# Altium integrated library Smartplug.IntLib: 12 symbols
Pins are listed as number, name and electrical type; pins without a type are passive.

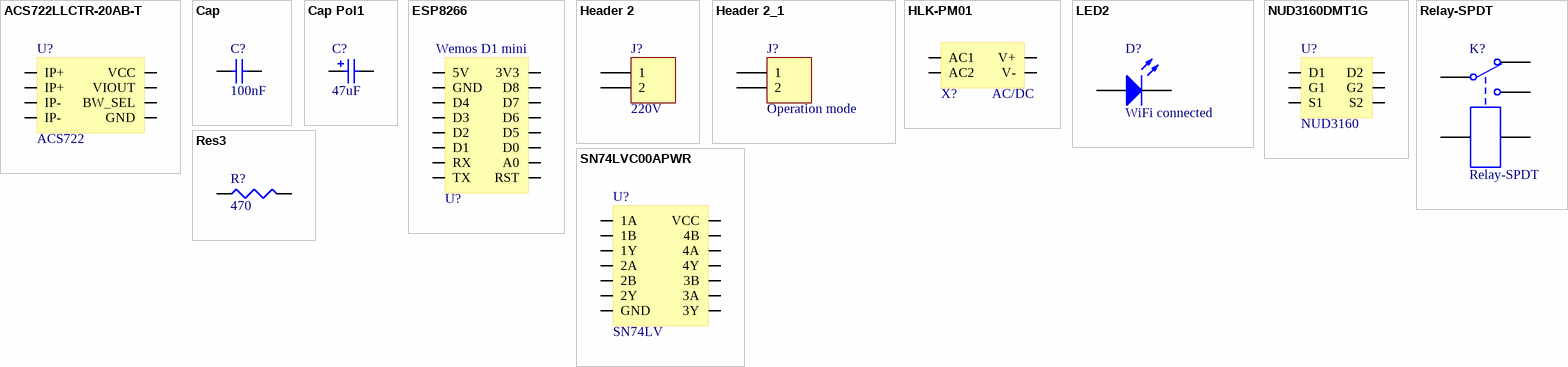
[diagram p0: symbols ACS722LLCTR-20AB-T to SN74LVC00APWR]

## ACS722LLCTR-20AB-T
designator U?, comment ACS722
SENSOR CURRENT HALL 20A AC/DC; Manufacturer 1: Allegro MicroSystems; Manufacturer Part Number 1: ACS722LLCTR-20AB-T; Number of Channels: 1; Frequency: 80kHz; Response Time: 5us; Max Supply Current: 12mA; Polarity: Bidirectional; Max Input Voltage: 3.6V; Min Input Voltage: 3V; Linearity: 1%; Accuracy: 3%; Quiescent Current: 9mA; Sensitivity: 66mV/A; Supplier 1: Digi-Key; Supplier Part Number 1: 620-1637-6-ND; Description 1: SENSOR CURRENT HALL 20A AC/DC; Stock: 4729; Pricing 1: 1=4.91, 5=4.332, 10=3.827, 25=3.1052, 50=2.7442, 100=2.672, 500=2.23866, 1000=2.09424 (USD); Case/Package: SOIC; Number of Pins: 8; Packaging: Tape and Reel; Bandwidth: 80kHz; Current Sensing: 20A; Length: 4.9mm; Height: 1.5mm; Width: 3.9mm; ComponentLink1URL: https://www.allegromicro.com/~/media/Files/Datasheets/ACS722-Datasheet.ashx?src-supplier=Digi-Key; ComponentLink1Description: https://www.allegromicro.com/~/media/Files/Datasheets/ACS722-Datasheet.ashx?src-supplier=Digi-Key; ComponentLink2URL: http://www.allegromicro.com/~/media/Files/Datasheets/ACS722-Datasheet.ashx?src-supplier=Digi-Key; ComponentLink2Description: http://www.allegromicro.com/~/media/Files/Datasheets/ACS722-Datasheet.ashx?src-supplier=Digi-Key
footprint SOIC8
pins: 1 IP+, 2 IP+, 3 IP-, 4 IP-, 5 GND, 6 BW_SEL, 7 VIOUT, 8 VCC

## Cap
designator C?  value 100nF  (hidden comment: Cap)
Capacitor; Manufacturer 1: KEMET; Manufacturer Part Number 1: C0805C104Z5VACTU; Description 1: KEMET         C0805C104Z5VACTU.             CERAMIC CAPACITOR, 0.1UF, 50V, Y5V, +80,-20%, 0805; Dielectric Material: Ceramic; Voltage Rating: 50V; Tolerance: 80%; Dielectric: Y5V; Dissipation Factor: 5%; Published: 8-Jun-2000; LatestRevisionDate: 17-Jul-2002; LatestRevisionNote: Re-released for DXP Platform.; PackageReference: RAD-0.3; Publisher: Altium Limited; PackageDescription: Radial Cap, Thru-Hole; 2 Leads; 0.3 in Pin Spacing; Supplier 1: Digi-Key; Supplier Part Number 1: 399-1177-6-ND; Stock: 978536; Pricing 1: 1=0.1, 10=0.057, 100=0.0254, 500=0.01818, 1000=0.01428 (USD); Mount: Surface Mount,PCB; Case/Package: 0805; Number of Pins: 2; Case Code (Metric): 2012; Case Code (Imperial): 0805; Min Operating Temperature: -30°C; Max Operating Temperature: 85°C; Package Quantity: 1; Capacitance: 100nF; Packaging: Tape and Reel; Voltage Rating (DC): 50V; Termination: SMD/SMT; Voltage: 50V; Length: 2mm; Height: 0.9mm; Lead Pitch: 0.75mm; Width: 0.049inch; Thickness: 0.039inch; Depth: 1.25mm; Radiation Hardening: No; REACH SVHC: No SVHC; Lead Free: Lead Free; ComponentLink1URL: http://www.alliedelec.com/m/d/9bfe7773041ffe9d406e68bc7b377fdd.pdf?src-supplier=Allied+Electronics; ComponentLink1Description: http://www.alliedelec.com/m/d/9bfe7773041ffe9d406e68bc7b377fdd.pdf?src-supplier=Allied+Electronics; ComponentLink2URL: https://www.verical.com/server-webapp/html/getDatasheet?partID=37101&src-supplier=Verical; ComponentLink2Description: https://www.verical.com/server-webapp/html/getDatasheet?partID=37101&src-supplier=Verical; ComponentLink3URL: https://www.verical.com/server-webapp/html/getDatasheet?partID=321176&src-supplier=Verical; ComponentLink3Description: https://www.verical.com/server-webapp/html/getDatasheet?partID=321176&src-supplier=Verical; ComponentLink4URL: http://www.farnell.com/datasheets/2123124.pdf?src-supplier=Element14; ComponentLink4Description: http://www.farnell.com/datasheets/2123124.pdf?src-supplier=Element14
footprint RAD-0.3 (Radial Cap, Thru-Hole; 2 Leads; 0.3 in Pin Spacing)
simulation model CAP (Capacitor)
signal-integrity model Cap
footprint C0805 (Chip Capacitor, Body 2.0x1.3mm, IPC High Density)
pins: 1, 2

## Cap Pol1
designator C?  value 47uF  (hidden comment: Cap Pol1)
Polarized Capacitor (Radial); Manufacturer 1: Nichicon; Manufacturer Part Number 1: UWT1E470MCL6GS; Description 1: Aluminum Electrolytic Capacitors - SMD 25volts 47uF 6.3x5.8 20%; Dielectric Material: Aluminium; Voltage Rating: 25V; Tolerance: 20%; Ripple Current: 59mA; Leakage Current: 3uA; Life (Hours): 1000Hour; Dissipation Factor: 0.16%; Published: 8-Jun-2000; LatestRevisionDate: 17-Jul-2002; LatestRevisionNote: Re-released for DXP Platform.; PackageReference: RB7.6-15; Publisher: Altium Limited; PackageDescription: Polarized Capacitor (Radial); 2 Leads; Supplier 1: Digi-Key; Supplier Part Number 1: 493-9881-6-ND; Stock: 12722; Pricing 1: 1=0.29, 10=0.202, 100=0.1143, 500=0.08072 (USD); Mount: Surface Mount; Case/Package: Radial; Min Operating Temperature: -55°C; Max Operating Temperature: 105°C; Capacitance: 47uF; Package Quantity: 1000; Voltage Rating (DC): 25V; Packaging: Tape and Reel; Termination: SMD/SMT; Features: General Purpose; Diameter: 6.3mm; Length: 5.8mm; Height: 6.6mm; Radiation Hardening: No; Lead Free: Lead Free; ComponentLink1URL: http://www.mouser.com/ds/2/293/e-wt-30307.pdf?src-supplier=Mouser; ComponentLink1Description: http://www.mouser.com/ds/2/293/e-wt-30307.pdf?src-supplier=Mouser; ComponentLink2URL: https://www.verical.com/server-webapp/html/getDatasheet?partID=732041&src-supplier=Verical; ComponentLink2Description: https://www.verical.com/server-webapp/html/getDatasheet?partID=732041&src-supplier=Verical; ComponentLink3URL: http://www.nichicon.co.jp/english/products/pdfs/e-ch_ref.pdf?src-supplier=Digi-Key; ComponentLink3Description: http://www.nichicon.co.jp/english/products/pdfs/e-ch_ref.pdf?src-supplier=Digi-Key; ComponentLink4URL: http://nichicon-us.com/english/products/pdfs/e-wt.pdf?src-supplier=Future+Electronics; ComponentLink4Description: http://nichicon-us.com/english/products/pdfs/e-wt.pdf?src-supplier=Future+Electronics; ComponentLink5URL: http://www.nichicon.co.jp/english/products/pdfs/e-wt.pdf?src-supplier=Avnet+Europe; ComponentLink5Description: http://www.nichicon.co.jp/english/products/pdfs/e-wt.pdf?src-supplier=Avnet+Europe
footprint RB7.6-15 (Polarized Capacitor (Radial); 2 Leads)
simulation model CAP (Capacitor)
signal-integrity model Cap Pol
footprint CAP47U
pins: 1, 2
1 alternate drawing of the same symbol

## ESP8266
designator U?, comment Wemos D1 mini
ESP8266 based MCU with Wi-Fi; Manufacturer Part Number 1: D1 mini; Manufacturer 1: Wemos; ComponentLink1Description: Datasheet; ComponentLink1URL: https://docs.wemos.cc/en/latest/d1/d1_mini.html
footprint WEMOS_D1
pins: 1 5V, 2 GND, 3 D4, 4 D3, 5 D2, 6 D1, 7 RX, 8 TX, 9 RST, 10 A0, 11 D0, 12 D5, 13 D6, 14 D7, 15 D8, 16 3V3

## Header 2
designator J?, comment 220V
Header, 2-Pin; Manufacturer 1: TE Connectivity; Manufacturer Part Number 1: 282834-2; Description 1: TE CONNECTIVITY / BUCHANAN - 282834-2 - TERMINAL BLOCK, WIRE TO BRD, 2POS, 16AWG; Plating: Brass,Steel; Max Voltage Rating (AC): 150V; Number of Poles: 2; Gender: Male; Current Rating: 10A; Number of Levels: 1; Connector Type: Receptacle; Closed End: No (Without); Screwless Terminal Block: Yes (With); Wire Gauge (Max): 30AWG; Pitch: 2.54mm; Thread Size: M1.6; Tail Length: 3.4mm; Approvals: UL; LatestRevisionDate: 17-Jul-2002; LatestRevisionNote: Re-released for DXP Platform.; Publisher: Altium Limited; Supplier 1: Digi-Key; Supplier Part Number 1: A98333-ND; Stock: 18918; Pricing 1: 1=0.92, 10=0.649, 25=0.6048, 50=0.549, 100=0.5467, 250=0.46164, 500=0.43732, 1000=0.38874, 5000=0.36444 (USD); Mount: Through Hole; Contact Plating: Tin; Contact Material: Brass; Color: Green; Material: Nylon; Housing Color: Green; Housing Material: Polyamide; Min Operating Temperature: -40°C; Max Operating Temperature: 105°C; Number of Rows: 1; Voltage Rating: 150V; Package Quantity: 300; Packaging: Bulk; Number of Positions: 2; Termination: Solder; Number of Positions Per Level: 2; Current: 10A; Voltage: 150V; Max Supply Voltage (AC): 150V; Number of Contacts: 2; Number of Circuits: 2; Orientation: Straight; Max Current Rating: 10A; Interlock: No (Without); Screw Flange: No (Without); Side Stackable: Yes (With); Length: 5.54mm; Wire Gauge (Min): 30AWG; Width: 6.5mm; Wire/Cable Gauge: 30AWG; Depth: 6.5mm; Radiation Hardening: No; REACH SVHC: Unknown; ELV: Compliant; Lead Free: Lead Free; Flammability Rating: UL94 V-0; ComponentLink1URL: https://www.alliedelec.com/m/d/020b790adaa0bc8636bbfa0190e2b719.pdf?src-supplier=Allied+Electronics; ComponentLink1Description: https://www.alliedelec.com/m/d/020b790adaa0bc8636bbfa0190e2b719.pdf?src-supplier=Allied+Electronics; ComponentLink2URL: https://www.verical.com/server-webapp/html/getDatasheet?partID=155864&src-supplier=Verical; ComponentLink2Description: https://www.verical.com/server-webapp/html/getDatasheet?partID=155864&src-supplier=Verical; ComponentLink3URL: http://www.te.com/commerce/DocumentDelivery/DDEController?Action=showdoc&DocId=Catalog+Section%7F1308389_EUROSTYLE_TERMINAL_BLOCKS%7F0607%7Fpdf%7FEnglish%7FENG_CS_1308389_EUROSTYLE_TERMINAL_BLOCKS_0607.pdf&src-supplier=Avnet; ComponentLink3Description: http://www.te.com/commerce/DocumentDelivery/DDEController?Action=showdoc&DocId=Catalog+Section%7F1308389_EUROSTYLE_TERMINAL_BLOCKS%7F0607%7Fpdf%7FEnglish%7FENG_CS_1308389_EUROSTYLE_TERMINAL_BLOCKS_0607.pdf&src-supplier=Avnet; ComponentLink4URL: http://www1.futureelectronics.com/doc/TE%20CONNECTIVITY/282834-2.pdf?src-supplier=Future+Electronics; ComponentLink4Description: http://www1.futureelectronics.com/doc/TE%20CONNECTIVITY/282834-2.pdf?src-supplier=Future+Electronics; ComponentLink5URL: https://www.te.com/commerce/DocumentDelivery/DDEController?Action=srchrtrv&DocNm=1308389_EUROSTYLE_TERMINAL_BLOCKS&DocType=CS&DocLang=English&src-supplier=Digi-Key; ComponentLink5Description: https://www.te.com/commerce/DocumentDelivery/DDEController?Action=srchrtrv&DocNm=1308389_EUROSTYLE_TERMINAL_BLOCKS&DocType=CS&DocLang=English&src-supplier=Digi-Key; ComponentLink6URL: http://www.te.com/commerce/DocumentDelivery/DDEController?Action=showdoc&DocId=Catalog+Section%7F1308389_EUROSTYLE_TERMINAL_BLOCKS%7F0607%7Fpdf%7FEnglish%7FENG_CS_1308389_EUROSTYLE_TERMINAL_BLOCKS_0607.pdf&src-supplier=Avnet+Europe; ComponentLink6Description: http://www.te.com/commerce/DocumentDelivery/DDEController?Action=showdoc&DocId=Catalog+Section%7F1308389_EUROSTYLE_TERMINAL_BLOCKS%7F0607%7Fpdf%7FEnglish%7FENG_CS_1308389_EUROSTYLE_TERMINAL_BLOCKS_0607.pdf&src-supplier=Avnet+Europe; ComponentLink7URL: http://www.onlinecomponents.com/productFiles/mf-AMP/eng_cs_1308389_eurostyle_terminal_blocks_0607.pdf?src-supplier=Onlinecomponents.com; ComponentLink7Description: http://www.onlinecomponents.com/productFiles/mf-AMP/eng_cs_1308389_eurostyle_terminal_blocks_0607.pdf?src-supplier=Onlinecomponents.com
footprint HDR1X2 (Connector; Header; 2 Position)
signal-integrity model Connector
footprint TBLOCK2
pins: 1, 2

## Header 2_1
designator J?, comment Operation mode
Header, 2-Pin; Manufacturer 1: Amphenol FCI; Manufacturer Part Number 1: 77311-118-02LF; Description 1: Conn;  Rect;  UnshroudedHdr;  2Cnts;  ThruHole;  BergStik;  2.54mmPin-Spng;  Vert;  SingleRow; Current Rating: 3A; Voltage Rating: 1.5kV; Number of Positions: 2; Insulation Resistance: 5GR; Gender: Male; Connector Type: Male Pin; Pitch: 2.54mm; Contact Post Length: 3.05mm; LatestRevisionDate: 17-Jul-2002; LatestRevisionNote: Re-released for DXP Platform.; Publisher: Altium Limited; Supplier 1: Digi-Key; Supplier Part Number 1: 609-4434-ND; Stock: 85355; Pricing 1: 1=0.19, 10=0.182, 100=0.1258, 500=0.10648, 1000=0.08712, 5000=0.07744, 10000=0.07018 (USD); Mount: Through Hole; Contact Plating: Gold,GXT; Contact Material: Bronze; Color: Black; Housing Color: Black; Material: Thermoplastic; Housing Material: Thermoplastic; Min Operating Temperature: -65°C; Max Operating Temperature: 125°C; Number of Rows: 1; Contact Gender: Male; Package Quantity: 1000; Packaging: Bulk; Termination: Solder; Number of Contacts: 2; Max Voltage Rating (AC): 1.5kV; Orientation: Straight; Length: 5.08mm; Contact Mating Length: 0.23inch; Depth: 2.4mm; Radiation Hardening: No; REACH SVHC: No SVHC; Lead Free: Lead Free; Flammability Rating: UL94 V-0; ComponentLink1URL: https://cdn.amphenol-icc.com/media/wysiwyg/files/drawing/77311.pdf?src-supplier=Digi-Key; ComponentLink1Description: https://cdn.amphenol-icc.com/media/wysiwyg/files/drawing/77311.pdf?src-supplier=Digi-Key; ComponentLink2URL: http://portal.fciconnect.com/Comergent/fci/drawing/77311.pdf?src-supplier=Avnet+Asia; ComponentLink2Description: http://portal.fciconnect.com/Comergent/fci/drawing/77311.pdf?src-supplier=Avnet+Asia; ComponentLink3URL: http://portal.fciconnect.com/Comergent/fci/drawing/77311.pdf?src-supplier=Avnet; ComponentLink3Description: http://portal.fciconnect.com/Comergent/fci/drawing/77311.pdf?src-supplier=Avnet; ComponentLink4URL: https://www.alliedelec.com/m/d/695616ca3fa695a35268331f95f01020.pdf?src-supplier=Allied+Electronics; ComponentLink4Description: https://www.alliedelec.com/m/d/695616ca3fa695a35268331f95f01020.pdf?src-supplier=Allied+Electronics
footprint HDR1X2 (Connector; Header; 2 Position)
signal-integrity model Connector
footprint HEADER2
pins: 1, 2

## HLK-PM01
designator X?, comment AC/DC
220Vac to 5Vdc converter (3W); Manufacturer 1: Hi-Link; Manufacturer Part Number 1: PM01; ComponentLink1Description: Datasheet; ComponentLink1URL: https://datasheet.lcsc.com/szlcsc/1909111105_HI-LINK-HLK-PM24_C399250.pdf
footprint HLK-PM01
pins: 1 AC1, 2 AC2, 3 V-, 4 V+

## LED2
designator D?, comment WiFi connected
Typical RED, GREEN, YELLOW, AMBER GaAs LED; Manufacturer 1: Stanley; Manufacturer Part Number 1: BR1101W-TR; Description 1: Red 1206 152/141° 12.8 mcd Clear 1.7 V LED Surface Mount; Lens Style: Clear; Forward Voltage: 1.7V; Viewing Angle: 141°; Wavelength: 660nm; Luminous Intensity: 12.8mcd; Published: 8-Jun-2000; LatestRevisionDate: 17-Jul-2002; LatestRevisionNote: Re-released for DXP Platform.; PackageVersion: Feb-2002; PackageReference: 3.2X1.6X1.1; Publisher: Altium Limited; PackageDescription: SM LED; 2 Flat Leads; Supplier 1: Digi-Key; Supplier Part Number 1: 404-1042-6-ND; Stock: 56287; Pricing 1: 1=0.47, 10=0.334, 100=0.195, 500=0.13368, 1000=0.1114 (USD); Mount: Surface Mount; Case/Package: 1206; Color: Red; Packaging: Cut Tape; Length: 3mm; Height: 1.5mm; Width: 1.5mm; Lead Free: Lead Free; ComponentLink1URL: http://www1.futureelectronics.com/doc/STANLEY/BR1101W-TR.pdf?src-supplier=Future+Electronics; ComponentLink1Description: http://www1.futureelectronics.com/doc/STANLEY/BR1101W-TR.pdf?src-supplier=Future+Electronics
footprint 3.2X1.6X1.1 (SMT LED; 2 Flat Leads)
simulation model LED2 (Diode)
pins: 1 A, 2 K

## NUD3160DMT1G
designator U?, comment NUD3160
IC INDCT LOAD DRVR INDUST SC74-6; Manufacturer 1: ON Semiconductor; Manufacturer Part Number 1: NUD3160DMT1G; Number of Outputs: 2; Max Supply Voltage: 60V; Rise Time: 600ns; Interface: On/Off; Max Output Current: 150mA; Gate to Source Voltage (Vgs): 12V; Power Dissipation: 380mW; Output Configuration: Low Side; Output Current: 200mA; Output Voltage: 61V; Current Rating: 263mA; Drain to Source Resistance: 1.8R; Element Configuration: Dual; On-State Resistance: 3.7R; Supplier 1: Digi-Key; Supplier Part Number 1: NUD3160DMT1GOSDKR-ND; Description 1: IC INDCT LOAD DRVR INDUST SC74-6; Stock: 11786; Pricing 1: 1=0.45, 10=0.367, 100=0.2264, 500=0.17176, 1000=0.12882 (USD); Mount: Surface Mount; Case/Package: SC; Number of Pins: 6; Contact Plating: Tin,Matte; Min Operating Temperature: -40°C; Max Operating Temperature: 125°C; Packaging: Tape and Reel; Package Quantity: 3000; Continuous Drain Current (ID): 150mA; Fall Time: 600ns; Number of Elements: 2; Drain to Source Breakdown Voltage: 60V; Drain to Source Voltage (Vdss): 60V; Length: 3mm; Height: 0.94mm; Width: 1.5mm; Radiation Hardening: No; Lead Free: Lead Free; Halogen Free: Halogen Free; REACH SVHC: No SVHC; ComponentLink1URL: http://www.onsemi.com/pub_link/Collateral/NUD3160-D.PDF?src-supplier=Digi-Key; ComponentLink1Description: http://www.onsemi.com/pub_link/Collateral/NUD3160-D.PDF?src-supplier=Digi-Key; ComponentLink2URL: http://www.onsemi.ru.com/pub/Collateral/NUD3160-D.PDF?src-supplier=Avnet+Europe; ComponentLink2Description: http://www.onsemi.ru.com/pub/Collateral/NUD3160-D.PDF?src-supplier=Avnet+Europe; ComponentLink3URL: http://www.onsemi.com/pub/Collateral/NUD3160-D.PDF?src-supplier=Digi-Key; ComponentLink3Description: http://www.onsemi.com/pub/Collateral/NUD3160-D.PDF?src-supplier=Digi-Key; ComponentLink4URL: http://www.onsemi.cn/pub_link/Collateral/NUD3160-D.PDF?src-supplier=Avnet; ComponentLink4Description: http://www.onsemi.cn/pub_link/Collateral/NUD3160-D.PDF?src-supplier=Avnet; ComponentLink5URL: http://www.onsemi.ru.com/pub/Collateral/NUD3160-D.PDF?src-supplier=Avnet; ComponentLink5Description: http://www.onsemi.ru.com/pub/Collateral/NUD3160-D.PDF?src-supplier=Avnet
footprint SC-74
pins: 1 S1, 2 G1, 3 D2, 4 S2, 5 G2, 6 D1

## Relay-SPDT
designator K?
Single-Pole Dual-Throw Relay; Manufacturer 1: Omron; Manufacturer Part Number 1: G5LE-14-DC3; Description 1: RELAY GEN PURPOSE SPDT 10A 3V; Throw Configuration: SPDT; Coil Resistance: 22.5R; Coil Current: 133mA; Operate Time: 10ms; Release Time: 5ms; Coil Power: 400mW; Max Voltage Rating (AC): 250V; Max Voltage Rating (DC): 125V; Relay Type: General Purpose; Coil Type: Non-Latching; Coil Voltage (DC): 3V; Contact Current Rating: 10A; Published: 24-Mar-1999; LatestRevisionDate: 17-Jul-2002; LatestRevisionNote: Re-released for DXP Platform.; PackageReference: MODULE5B; Publisher: Altium Limited; Supplier 1: Digi-Key; Supplier Part Number 1: Z3326-ND; Stock: 12824; Pricing 1: 1=1.44, 10=1.35, 25=1.2004, 50=1.1404, 100=1.0804, 250=0.96032, 500=0.9003, 1000=0.84028, 5000=0.81027 (USD); Mount: Through Hole; Number of Pins: 5; Weight: 12g; Contact Material: Tin,Silver; Min Operating Temperature: -25°C; Max Operating Temperature: 85°C; Package Quantity: 500; Packaging: Tray; Termination: PC Pin; Max Current Rating: 10A; Radiation Hardening: No; ComponentLink1URL: https://omronfs.omron.com/en_US/ecb/products/pdf/en-g5le.pdf?src-supplier=Digi-Key; ComponentLink1Description: https://omronfs.omron.com/en_US/ecb/products/pdf/en-g5le.pdf?src-supplier=Digi-Key
footprint MODULE5B (DIP; 5 Round Pins; Row Space 15.24 mm; Pitch 2.54 mm)
simulation model SPDTRELAY (Spice Subcircuit)
footprint G5LE-1C
pins: 1, 2, 3, 4, 5

## Res3
designator R?  value 470  (hidden comment: Res3)
Resistor; Manufacturer 1: TE Connectivity; Manufacturer Part Number 1: CRGCQ0603J470R; Description 1: TE CONNECTIVITY - CRGCQ0603J470R - RES, 470R, 5%, 0603, THICK FILM; Resistance: 470R; Tolerance: 5%; Max Power Dissipation: 100mW; Temperature Coefficient: 100ppm/°C; Published: 8-Jun-2000; LatestRevisionDate: 29-May-2009; LatestRevisionNote: IPC-7351 Footprint Added.; PackageReference: J1-0603; Publisher: Altium Limited; PackageDescription: Chip Resistor; Supplier 1: Digi-Key; Supplier Part Number 1: A130089DKR-ND; Stock: 87954; Pricing 1: 1=0.1, 10=0.021, 100=0.0086, 1000=0.00387, 2500=0.00336 (USD); Case/Package: 0603; Case Code (Imperial): 0603; Case Code (Metric): 1608; Min Operating Temperature: -55°C; Max Operating Temperature: 155°C; Composition: Thick Film; Features: Moisture Resistant,Automotive AEC-Q200; Packaging: Tape and Reel; Number of Terminations: 2; ComponentLink1URL: https://4donline.ihs.com/images/VipMasterIC/IC/TYEL/TYEL-S-A0004929575/TYEL-S-A0004929575-1.pdf?hkey=52A5661711E402568146F3353EA87419&src-supplier=Farnell; ComponentLink1Description: https://4donline.ihs.com/images/VipMasterIC/IC/TYEL/TYEL-S-A0004929575/TYEL-S-A0004929575-1.pdf?hkey=52A5661711E402568146F3353EA87419&src-supplier=Farnell; ComponentLink2URL: https://4donline.ihs.com/images/VipMasterIC/IC/TYEL/TYEL-S-A0004929575/TYEL-S-A0004929575-1.pdf?hkey=52A5661711E402568146F3353EA87419&src-supplier=Newark; ComponentLink2Description: https://4donline.ihs.com/images/VipMasterIC/IC/TYEL/TYEL-S-A0004929575/TYEL-S-A0004929575-1.pdf?hkey=52A5661711E402568146F3353EA87419&src-supplier=Newark; ComponentLink3URL: https://www.te.com/commerce/DocumentDelivery/DDEController?Action=srchrtrv&amp;DocNm=1773204-3&amp;DocType=DS&amp;DocLang=English&src-supplier=Digi-Key; ComponentLink3Description: https://www.te.com/commerce/DocumentDelivery/DDEController?Action=srchrtrv&amp;DocNm=1773204-3&amp;DocType=DS&amp;DocLang=English&src-supplier=Digi-Key; ComponentLink4URL: https://www.te.com/commerce/DocumentDelivery/DDEController?Action=srchrtrv&DocNm=1773204-3&DocType=DS&DocLang=English&src-supplier=Digi-Key; ComponentLink4Description: https://www.te.com/commerce/DocumentDelivery/DDEController?Action=srchrtrv&DocNm=1773204-3&DocType=DS&DocLang=English&src-supplier=Digi-Key
footprint J1-0603 (Chip Resistor, Body 1.6x0.8mm, IPC High Density)
footprint 14-1210 (Chip Resistor, Body 3.2x2.5mm, IPC High Density)
footprint 12Z-2010 (Chip Resistor, Body 5.0x2.5mm, IPC High Density)
footprint RESC6332 (Chip Resistor, Body 6.3x3.2mm, IPC High Density)
simulation model RESISTOR (Resistor)
signal-integrity model Res
pins: 1, 2

## SN74LVC00APWR
designator U?, comment SN74LV
IC GATE NAND 4CH 2-INP 14-SSOP; Manufacturer 1: Texas Instruments; Manufacturer Part Number 1: SN74LVC00APWR; Description 1: IC GATE NAND 4CH 2-INP 14TSSOP; Propagation Delay: 4.1ns; Min Supply Voltage: 1.65V; Max Supply Voltage: 3.6V; Number of Elements: 4; Turn-On Delay Time: 4.3ns; Number of Inputs: 2; Number of Outputs: 1; Output Current: 24mA; Quiescent Current: 1uA; High Level Output Current: -24mA; Schmitt Trigger Input: No; Supplier 1: Digi-Key; Supplier Part Number 1: 296-1216-6-ND; Stock: 19024; Pricing 1: 1=0.41, 10=0.308, 100=0.1918, 500=0.13122, 1000=0.10094 (USD); Mount: Surface Mount; Case/Package: TSSOP; Number of Pins: 14; Weight: 0.002018oz; Contact Plating: Gold; Min Operating Temperature: -40°C; Max Operating Temperature: 125°C; Package Quantity: 1; Packaging: Tape and Reel; Logic Function: NAND; Number of Bits: 4; Number of Gates: 4; Number of Circuits: 4; Low Level Output Current: 24mA; Number of Input Lines: 2; Number of Output Lines: 1; Max Output Current: 24mA; Termination: SMD/SMT; Length: 5mm; Height: 1.15mm; Width: 4.4mm; Radiation Hardening: No; Lead Free: Lead Free; REACH SVHC: No SVHC; ComponentLink1URL: http://www.ti.com/lit/ds/symlink/sn74lvc00a.pdf?src-supplier=Digi-Key; ComponentLink1Description: http://www.ti.com/lit/ds/symlink/sn74lvc00a.pdf?src-supplier=Digi-Key; ComponentLink2URL: http://www.ti.com/general/docs/lit/getliterature.tsp?genericPartNumber=SN54LVC00A&&fileType=pdf&src-supplier=Avnet; ComponentLink2Description: http://www.ti.com/general/docs/lit/getliterature.tsp?genericPartNumber=SN54LVC00A&&fileType=pdf&src-supplier=Avnet; ComponentLink3URL: http://www.ti.com/general/docs/lit/getliterature.tsp?genericPartNumber=SN74LVC00A&amp;&amp;fileType=pdf&src-supplier=Newark; ComponentLink3Description: http://www.ti.com/general/docs/lit/getliterature.tsp?genericPartNumber=SN74LVC00A&amp;&amp;fileType=pdf&src-supplier=Newark; ComponentLink4URL: http://www.farnell.com/datasheets/1764343.pdf?src-supplier=Element14; ComponentLink4Description: http://www.farnell.com/datasheets/1764343.pdf?src-supplier=Element14; ComponentLink5URL: http://www.farnell.com/datasheets/2018849.pdf?src-supplier=Element14; ComponentLink5Description: http://www.farnell.com/datasheets/2018849.pdf?src-supplier=Element14; ComponentLink6URL: http://www.produktinfo.conrad.com/datenblaetter/1000000-1099999/001017089-da-01-en-IC_QUA_2IN_PO_SN74LVC00APWR_TSSOP_14_TID.pdf?src-supplier=Conrad; ComponentLink6Description: http://www.produktinfo.conrad.com/datenblaetter/1000000-1099999/001017089-da-01-en-IC_QUA_2IN_PO_SN74LVC00APWR_TSSOP_14_TID.pdf?src-supplier=Conrad
footprint TSSOP14
pins: 1 1A, 2 1B, 3 1Y, 4 2A, 5 2B, 6 2Y, 7 GND, 8 3Y, 9 3A, 10 3B, 11 4Y, 12 4A, 13 4B, 14 VCC